# EAGLE library part AZ34063U (library Power Supplies)
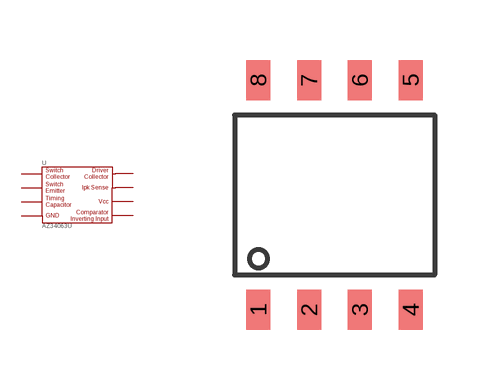
[diagram p2: symbol with the pads of SOIC-8; footprint SOIC-8]

Designator prefix U

## AZ34063U  [SOIC-8]
1  1  pas
2  2  pas
3  3  pas
4  4  pas
5  5  pas
6  6  pas
7  7  pas
8  8  pas

## Footprint SOIC-8 (pad centres in mm)
smd 0.6 x 1: 1 -1.905,-2.87; 2 -0.635,-2.87; 3 0.635,-2.87; 4 1.905,-2.87; 5 1.905,2.87; 6 0.635,2.87; 7 -0.635,2.87; 8 -1.905,2.87